# EAGLE library part EP2C8AQ208 (library altera-cyclone-II)
EP2C8AQ208 Auto generated by make-symbol-device-package-bsdl.ulp Rev. 19 Source: EP2C8AQ208.BSD
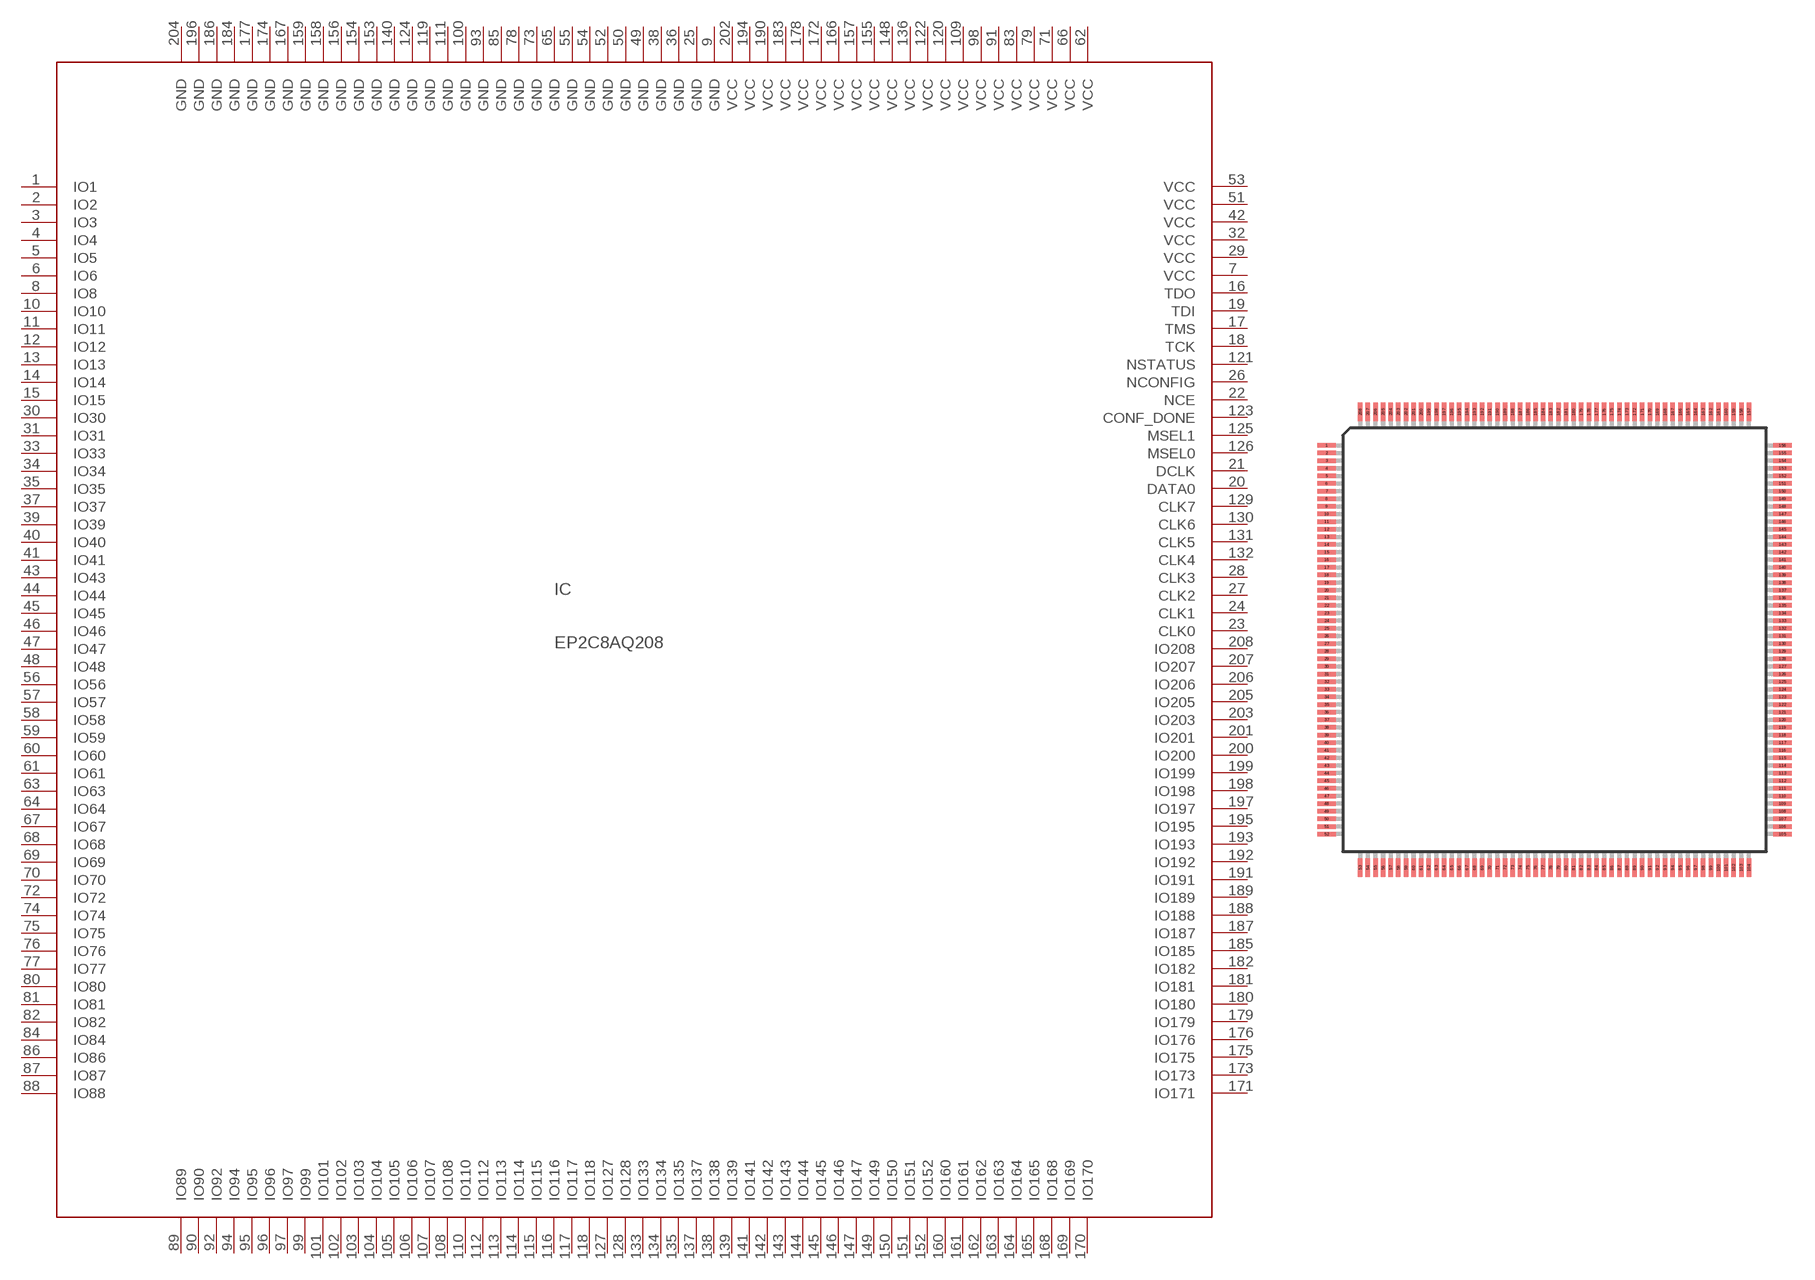
[diagram p19: symbol with the pads of PQFP208; footprint PQFP208]

Designator prefix IC

## EP2C8AQ208  [PQFP208]
1  IO1  out
2  IO2  out
3  IO3
4  IO4
5  IO5
6  IO6
7  VCC  pwr
8  IO8
9  GND  pwr
10  IO10
11  IO11
12  IO12
13  IO13
14  IO14
15  IO15
16  TDO  out
17  TMS  in
18  TCK  in
19  TDI  in
20  DATA0
21  DCLK
22  NCE  in
23  CLK0
24  CLK1
25  GND  pwr
26  NCONFIG  in
27  CLK2
28  CLK3
29  VCC  pwr
30  IO30
31  IO31
32  VCC  pwr
33  IO33
34  IO34
35  IO35
36  GND  pwr
37  IO37
38  GND  pwr
39  IO39
40  IO40
41  IO41
42  VCC  pwr
43  IO43
44  IO44
45  IO45
46  IO46
47  IO47
48  IO48
49  GND  pwr
50  GND  pwr
51  VCC  pwr
52  GND  pwr
53  VCC  pwr
54  GND  pwr
55  GND  pwr
56  IO56
57  IO57
58  IO58
59  IO59
60  IO60
61  IO61
62  VCC  pwr
63  IO63
64  IO64
65  GND  pwr
66  VCC  pwr
67  IO67
68  IO68
69  IO69
70  IO70
71  VCC  pwr
72  IO72
73  GND  pwr
74  IO74
75  IO75
76  IO76
77  IO77
78  GND  pwr
79  VCC  pwr
80  IO80
81  IO81
82  IO82
83  VCC  pwr
84  IO84
85  GND  pwr
86  IO86
87  IO87
88  IO88
89  IO89
90  IO90
91  VCC  pwr
92  IO92
93  GND  pwr
94  IO94
95  IO95
96  IO96
97  IO97
98  VCC  pwr
99  IO99
100  GND  pwr
101  IO101
102  IO102
103  IO103
104  IO104
105  IO105
106  IO106
107  IO107
108  IO108
109  VCC  pwr
110  IO110
111  GND  pwr
112  IO112
113  IO113
114  IO114
115  IO115
116  IO116
117  IO117
118  IO118
119  GND  pwr
120  VCC  pwr
121  NSTATUS  in
122  VCC  pwr
123  CONF_DONE  in
124  GND  pwr
125  MSEL1  in
126  MSEL0  in
127  IO127
128  IO128
129  CLK7
130  CLK6
131  CLK5
132  CLK4
133  IO133
134  IO134
135  IO135
136  VCC  pwr
137  IO137
138  IO138
139  IO139
140  GND  pwr
141  IO141
142  IO142
143  IO143
144  IO144
145  IO145
146  IO146
147  IO147
148  VCC  pwr
149  IO149
150  IO150
151  IO151
152  IO152
153  GND  pwr
154  GND  pwr
155  VCC  pwr
156  GND  pwr
157  VCC  pwr
158  GND  pwr
159  GND  pwr
160  IO160
161  IO161
162  IO162
163  IO163
164  IO164
165  IO165
166  VCC  pwr
167  GND  pwr
168  IO168
169  IO169
170  IO170
171  IO171
172  VCC  pwr
173  IO173
174  GND  pwr
175  IO175
176  IO176
177  GND  pwr
178  VCC  pwr
179  IO179
180  IO180
181  IO181
182  IO182
183  VCC  pwr
184  GND  pwr
185  IO185
186  GND  pwr
187  IO187
188  IO188
189  IO189
190  VCC  pwr
191  IO191
192  IO192
193  IO193
194  VCC  pwr
195  IO195
196  GND  pwr
197  IO197
198  IO198
199  IO199
200  IO200
201  IO201
202  VCC  pwr
203  IO203
204  GND  pwr
205  IO205
206  IO206
207  IO207
208  IO208

## Footprint PQFP208 (pad centres in mm)
PQFP208 Auto generated by make-symbol-device-package-bsdl.ulp Rev. 19 Source: www.altera.com .. cyc2_cii51015.pdf
smd 1.2 x 0.3: 1 -14.95,12.75; 2 -14.95,12.25; 3 -14.95,11.75; 4 -14.95,11.25; 5 -14.95,10.75; 6 -14.95,10.25; 7 -14.95,9.75; 8 -14.95,9.25; 9 -14.95,8.75; 10 -14.95,8.25; 11 -14.95,7.75; 12 -14.95,7.25; 13 -14.95,6.75; 14 -14.95,6.25; 15 -14.95,5.75; 16 -14.95,5.25; 17 -14.95,4.75; 18 -14.95,4.25; 19 -14.95,3.75; 20 -14.95,3.25; 21 -14.95,2.75; 22 -14.95,2.25; 23 -14.95,1.75; 24 -14.95,1.25; 25 -14.95,0.75; 26 -14.95,0.25; 27 -14.95,-0.25; 28 -14.95,-0.75; 29 -14.95,-1.25; 30 -14.95,-1.75; 31 -14.95,-2.25; 32 -14.95,-2.75; 33 -14.95,-3.25; 34 -14.95,-3.75; 35 -14.95,-4.25; 36 -14.95,-4.75; 37 -14.95,-5.25; 38 -14.95,-5.75; 39 -14.95,-6.25; 40 -14.95,-6.75; 41 -14.95,-7.25; 42 -14.95,-7.75; 43 -14.95,-8.25; 44 -14.95,-8.75; 45 -14.95,-9.25; 46 -14.95,-9.75; 47 -14.95,-10.25; 48 -14.95,-10.75; 49 -14.95,-11.25; 50 -14.95,-11.75; 51 -14.95,-12.25; 52 -14.95,-12.75; 105 14.95,-12.75; 106 14.95,-12.25; 107 14.95,-11.75; 108 14.95,-11.25; 109 14.95,-10.75; 110 14.95,-10.25; 111 14.95,-9.75; 112 14.95,-9.25; 113 14.95,-8.75; 114 14.95,-8.25; 115 14.95,-7.75; 116 14.95,-7.25; 117 14.95,-6.75; 118 14.95,-6.25; 119 14.95,-5.75; 120 14.95,-5.25; 121 14.95,-4.75; 122 14.95,-4.25; 123 14.95,-3.75; 124 14.95,-3.25; 125 14.95,-2.75; 126 14.95,-2.25; 127 14.95,-1.75; 128 14.95,-1.25; 129 14.95,-0.75; 130 14.95,-0.25; 131 14.95,0.25; 132 14.95,0.75; 133 14.95,1.25; 134 14.95,1.75; 135 14.95,2.25; 136 14.95,2.75; 137 14.95,3.25; 138 14.95,3.75; 139 14.95,4.25; 140 14.95,4.75; 141 14.95,5.25; 142 14.95,5.75; 143 14.95,6.25; 144 14.95,6.75; 145 14.95,7.25; 146 14.95,7.75; 147 14.95,8.25; 148 14.95,8.75; 149 14.95,9.25; 150 14.95,9.75; 151 14.95,10.25; 152 14.95,10.75; 153 14.95,11.25; 154 14.95,11.75; 155 14.95,12.25; 156 14.95,12.75
smd 0.3 x 1.2: 53 -12.75,-14.95; 54 -12.25,-14.95; 55 -11.75,-14.95; 56 -11.25,-14.95; 57 -10.75,-14.95; 58 -10.25,-14.95; 59 -9.75,-14.95; 60 -9.25,-14.95; 61 -8.75,-14.95; 62 -8.25,-14.95; 63 -7.75,-14.95; 64 -7.25,-14.95; 65 -6.75,-14.95; 66 -6.25,-14.95; 67 -5.75,-14.95; 68 -5.25,-14.95; 69 -4.75,-14.95; 70 -4.25,-14.95; 71 -3.75,-14.95; 72 -3.25,-14.95; 73 -2.75,-14.95; 74 -2.25,-14.95; 75 -1.75,-14.95; 76 -1.25,-14.95; 77 -0.75,-14.95; 78 -0.25,-14.95; 79 0.25,-14.95; 80 0.75,-14.95; 81 1.25,-14.95; 82 1.75,-14.95; 83 2.25,-14.95; 84 2.75,-14.95; 85 3.25,-14.95; 86 3.75,-14.95; 87 4.25,-14.95; 88 4.75,-14.95; 89 5.25,-14.95; 90 5.75,-14.95; 91 6.25,-14.95; 92 6.75,-14.95; 93 7.25,-14.95; 94 7.75,-14.95; 95 8.25,-14.95; 96 8.75,-14.95; 97 9.25,-14.95; 98 9.75,-14.95; 99 10.25,-14.95; 100 10.75,-14.95; 101 11.25,-14.95; 102 11.75,-14.95; 103 12.25,-14.95; 104 12.75,-14.95; 157 12.75,14.95; 158 12.25,14.95; 159 11.75,14.95; 160 11.25,14.95; 161 10.75,14.95; 162 10.25,14.95; 163 9.75,14.95; 164 9.25,14.95; 165 8.75,14.95; 166 8.25,14.95; 167 7.75,14.95; 168 7.25,14.95; 169 6.75,14.95; 170 6.25,14.95; 171 5.75,14.95; 172 5.25,14.95; 173 4.75,14.95; 174 4.25,14.95; 175 3.75,14.95; 176 3.25,14.95; 177 2.75,14.95; 178 2.25,14.95; 179 1.75,14.95; 180 1.25,14.95; 181 0.75,14.95; 182 0.25,14.95; 183 -0.25,14.95; 184 -0.75,14.95; 185 -1.25,14.95; 186 -1.75,14.95; 187 -2.25,14.95; 188 -2.75,14.95; 189 -3.25,14.95; 190 -3.75,14.95; 191 -4.25,14.95; 192 -4.75,14.95; 193 -5.25,14.95; 194 -5.75,14.95; 195 -6.25,14.95; 196 -6.75,14.95; 197 -7.25,14.95; 198 -7.75,14.95; 199 -8.25,14.95; 200 -8.75,14.95; 201 -9.25,14.95; 202 -9.75,14.95; 203 -10.25,14.95; 204 -10.75,14.95; 205 -11.25,14.95; 206 -11.75,14.95; 207 -12.25,14.95; 208 -12.75,14.95